# EAGLE library part TUSB2046BVF (library TUSB2046BVF)
THE UNIVERSAL SERIAL BUS
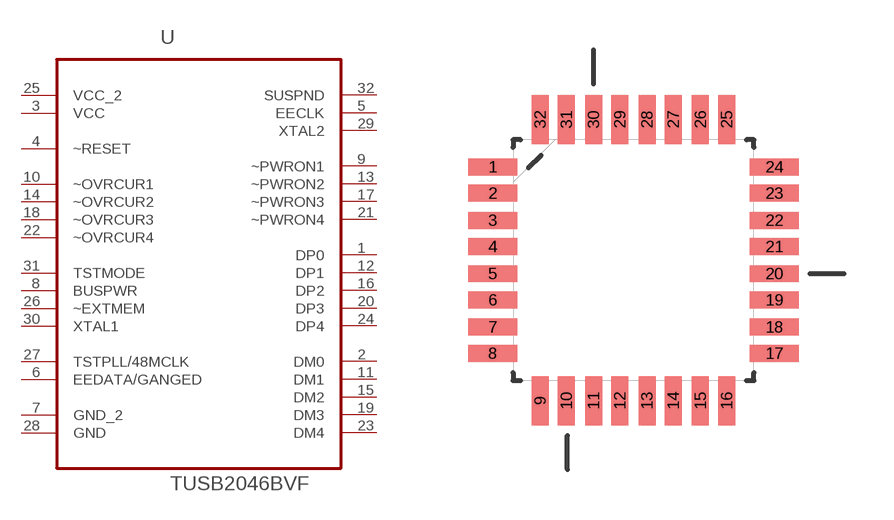
[diagram p0: symbol with the pads of QFP80P900X900X145-32N; footprint QFP80P900X900X145-32N]

Designator prefix U

## TUSB2046BVF (Availability: Unavailable; Description: 4-Port Full-Speed Universal Serial Bus Hub 32-LQFP 0 to 70; MF: Texas Instruments; MP: TUSB2046BVF; Package: LQFP-32 Texas Instruments; Price: None)  [QFP80P900X900X145-32N]
1  DP0
2  DM0
3  VCC  pwr
4  ~RESET  in
5  EECLK  out
6  EEDATA/GANGED
7  GND_2  pas
8  BUSPWR  in
9  ~PWRON1  out
10  ~OVRCUR1  in
11  DM1
12  DP1
13  ~PWRON2  out
14  ~OVRCUR2  in
15  DM2
16  DP2
17  ~PWRON3  out
18  ~OVRCUR3  in
19  DM3
20  DP3
21  ~PWRON4  out
22  ~OVRCUR4  in
23  DM4
24  DP4
25  VCC_2  pwr
26  ~EXTMEM  in
27  TSTPLL/48MCLK
28  GND  pas
29  XTAL2  out
30  XTAL1  in
31  TSTMODE  in
32  SUSPND  out

## Footprint QFP80P900X900X145-32N (pad centres in mm)
smd 1.473 x 0.508: 1 -4.216,2.794; 2 -4.216,2.007; 3 -4.216,1.194; 4 -4.216,0.406; 5 -4.216,-0.406; 6 -4.216,-1.194; 7 -4.216,-2.007; 8 -4.216,-2.794; 17 4.216,-2.794; 18 4.216,-2.007; 19 4.216,-1.194; 20 4.216,-0.406; 21 4.216,0.406; 22 4.216,1.194; 23 4.216,2.007; 24 4.216,2.794
smd 0.508 x 1.473: 9 -2.794,-4.216; 10 -2.007,-4.216; 11 -1.194,-4.216; 12 -0.406,-4.216; 13 0.406,-4.216; 14 1.194,-4.216; 15 2.007,-4.216; 16 2.794,-4.216; 25 2.794,4.216; 26 2.007,4.216; 27 1.194,4.216; 28 0.406,4.216; 29 -0.406,4.216; 30 -1.194,4.216; 31 -2.007,4.216; 32 -2.794,4.216